# Altium schematic symbol library usb3_plug_to_picoblade.SchLib: 1 symbol
Pins are listed as number, name and electrical type; pins without a type are passive.

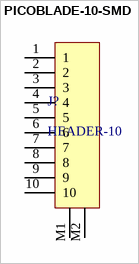
[diagram p0: symbol PICOBLADE-10-SMD]

## PICOBLADE-10-SMD
designator J?, comment HEADER-10
footprint PICOBLADE-10-SMD
pins: 1, 2, 3, 4, 5, 6, 7, 8, 9, 10, M1 M2, M2